# Altium schematic symbol library oscillator.SchLib: 1 symbol
Pins are listed as number, name and electrical type; pins without a type are passive.

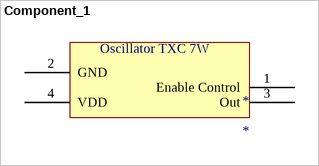
[diagram p0: symbol Component_1]

## Component_1
designator *
pins: 1 Enable Control, 2 GND, 3 Out, 4 VDD
text: Oscillator TXC 7W